# EAGLE library part JST_PHD_2X04 (library Gucci_ControlBoard)
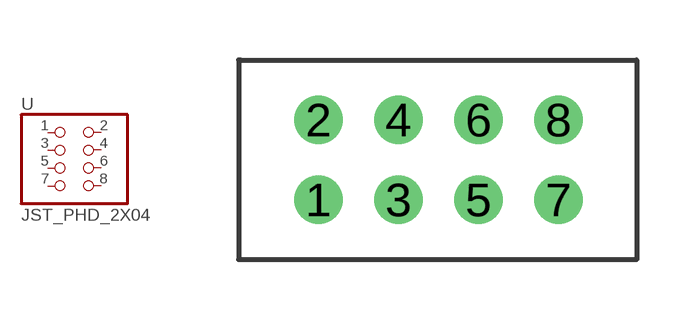
[diagram p0: symbol with the pads of JST_PHD_2X04; footprint JST_PHD_2X04]

Designator prefix -

## JST_PHD_2X04  [JST_PHD_2X04]
1  1  pas
2  2  pas
3  3  pas
4  4  pas
5  5  pas
6  6  pas
7  7  pas
8  8  pas

## Footprint JST_PHD_2X04 (pad centres in mm)
drill 0.7: 1 -2.921,-1.016; 2 -2.921,0.984; 3 -0.921,-1.016; 4 -0.921,0.984; 5 1.079,-1.016; 6 1.079,0.984; 7 3.079,-1.016; 8 3.079,0.984